# Altium footprint library DSUB.PcbLib: 5 footprints
Each footprint in its own frame and in the unit in brackets; x right, y up, seen from the top. Pads: shape width x height; smd on the part's side, far side on the other; paste and mask are expansions set on the pad; w line width, h text height; cw(c..) or ccw(c..) is an arc to the next point about the centre after c.
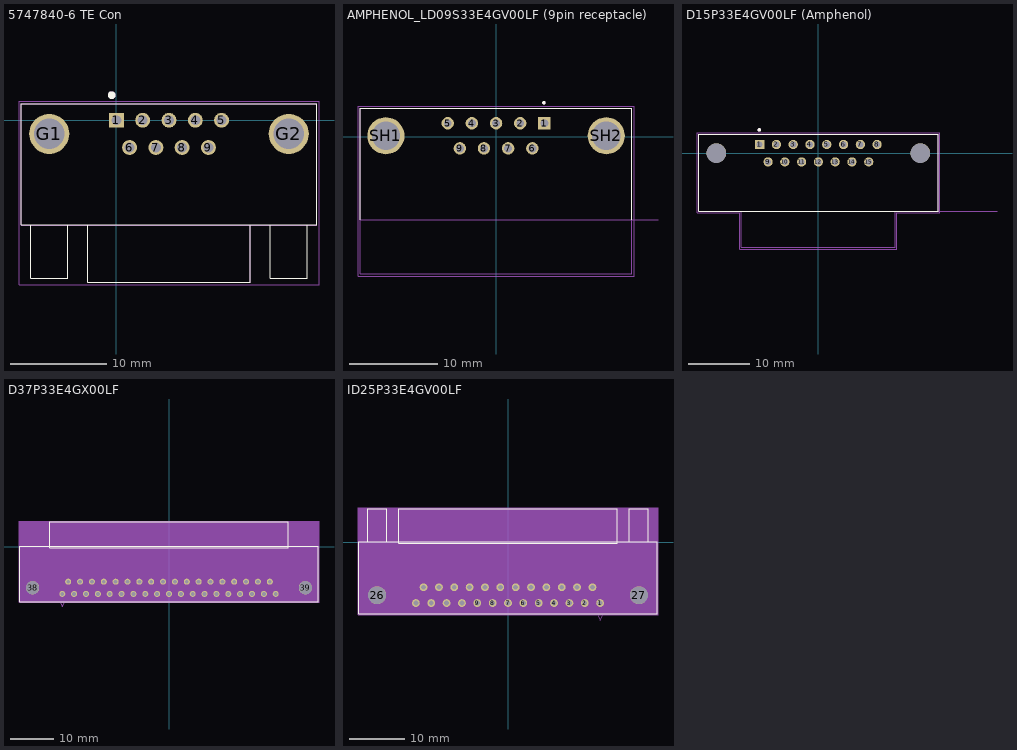
[diagram p0: the footprints below, top view; thin cyan lines are the x and y axes]

## 5747840-6 TE Con [mil]
pads (11):
  rect 61.5x61.5 hole 41: 1(0,0)
  round 61.5 hole 41: 2(108,0) 3(216,0) 4(324,0) 5(432,0) 6(54,-112) 7(162,-112) 8(270,-112) 9(378,-112)
  round 165 hole 125: G1(-276,-56) G2(708,-56)
Top Overlay:
  circle w15.75: c-19.04,103.15 r7.87
  lines w5: -351.5,-429.92 -351.5,-650 -200.5,-650 -200.5,-429.92 ; -351.5,-429.92 -390.5,-429.92 -390.5,68.11 822.5,68.11 822.5,-429.92 783.5,-429.92 ; -351.5,-429.92 -200.5,-429.92 ; -200.5,-429.92 -117.07,-429.92 ; -117.07,-429.92 -117.07,-664.96 549.07,-664.96 549.07,-429.92 ; -117.07,-429.92 549.07,-429.92 ; 549.07,-429.92 632.5,-429.92 ; 632.5,-429.92 632.5,-650 783.5,-650 783.5,-429.92 ; 632.5,-429.92 783.5,-429.92
Mechanical 13:
  circle w15.75: c-19.04,103.15 r7.87
  lines w5: -117.07,-430.8 -117.07,-665.84 549.07,-665.84 549.07,-430.8 ; -117.07,-430.8 -390.5,-430.8 -390.5,68.11 822.5,68.11 822.5,-430.8 549.07,-430.8 ; -117.07,-430.8 549.07,-430.8
Mechanical 15:
  lines w1.97: -400.34,-440.94 -400.34,-676.02 832.34,-676.02 832.34,-440.94 ; -400.34,-440.87 -400.34,77.4 832.34,77.4 832.34,-440.87
3D body "5747840-6.stp": height 451.72, standoff -170.68, extent -397,-666.2 825,66.2

## AMPHENOL_LD09S33E4GV00LF (9pin receptacle) [mm]
pads (11):
  rect 1.408x1.408 / inner round 1.408 / far side rect 1.408x1.408 hole 0.9: 1(5.48,1.547)
  round 1.408 hole 0.9: 2(2.74,1.547) 3(0,1.547) 4(-2.74,1.547) 5(-5.48,1.547) 6(4.11,-1.293) 7(1.37,-1.293) 8(-1.37,-1.293) 9(-4.11,-1.293)
  round 4.216 hole 3.2: SH1(-12.495,0.127) SH2(12.495,0.127)
Top Overlay:
  circle w0.2: c5.425,3.877 r0.1
  lines w0.127: -15.405,-9.373 -15.405,3.227 15.405,3.227 15.405,-9.373
Mechanical 13:
  circle w0.2: c5.425,3.877 r0.1
  lines w0.127: 18.363,-9.373 -15.405,-9.373 ; -15.405,-9.373 -15.405,3.227 15.405,3.227 15.405,-15.543 -15.405,-15.543 -15.405,-9.373
  text "PCB Edge" at 16.155,-9.08 h0.81
Mechanical 15:
  lines w0.05: -15.655,-15.793 15.655,-15.793 15.655,3.477 -15.655,3.477 -15.655,-15.793
3D body "step_temp.STEP": height 12.55, standoff -3.2, extent -15.494,-15.598 15.406,3.152

## D15P33E4GV00LF (Amphenol) [mm]
pads (17):
  rect 1.508x1.508 / inner round 1.508 / far side rect 1.508x1.508 hole 1: 1(-9.59,1.42)
  round 1.508 hole 1: 2(-6.85,1.42) 3(-4.11,1.42) 4(-1.37,1.42) 5(1.37,1.42) 6(4.11,1.42) 7(6.85,1.42) 8(9.59,1.42) 9(-8.22,-1.42) 10(-5.48,-1.42) 11(-2.74,-1.42) 12(0,-1.42) 13(2.74,-1.42) 14(5.48,-1.42) 15(8.22,-1.42)
  round 3.2 hole 3.2 unplated: ""(-16.66,0) ""(16.66,0)
Top Overlay:
  circle w0.3: c-9.645,3.8 r0.15
  lines w0.127: -19.57,-9.5 19.57,-9.5 19.57,3.1 -19.57,3.1 -19.57,-9.5
Mechanical 13:
  circle w0.3: c-9.645,3.8 r0.15
  lines w0.127: 29.165,-9.5 19.57,-9.5 ; -12.56,-9.5 12.56,-9.5 ; -12.56,-9.5 -12.56,-15.4 12.56,-15.4 12.56,-9.5 ; -12.56,-9.5 -19.57,-9.5 -19.57,3.1 19.57,3.1 19.57,-9.5 ; 12.56,-9.5 19.57,-9.5
  text "PCB EDGE" at 20.165,-9.31 h1
Mechanical 15:
  lines w0.05: -19.82,-9.75 -12.81,-9.75 -12.81,-15.65 12.81,-15.65 12.81,-9.75 19.82,-9.75 19.82,3.35 -19.82,3.35 -19.82,-9.75
3D body "D15P33E4GV00LF--3DModel-STEP-533217.STEP": height 12.55, standoff -3.2, extent -19.57,-15.54 19.57,3.31

## D37P33E4GX00LF [mil]
pads (39):
  round 55 / inner round 60 / far side round 55 hole 35 paste-27.5 mask+0: 1(-977.95,-429.92) 2(-869.29,-429.92) 3(-760.63,-429.92) 4(-651.97,-429.92) 5(-543.31,-429.92) 6(-434.65,-429.92) 7(-325.98,-429.92) 8(-217.32,-429.92) 9(-108.66,-429.92) 10(0,-429.92) 11(108.66,-429.92) 12(217.32,-429.92) 13(325.98,-429.92) 14(434.65,-429.92) 15(543.31,-429.92) 16(651.97,-429.92) 17(760.63,-429.92) 18(869.29,-429.92) 19(977.95,-429.92) 20(-923.62,-318.11) 21(-814.96,-318.11) 22(-706.3,-318.11) 23(-597.64,-318.11) 24(-488.98,-318.11) 25(-380.31,-318.11) 26(-271.65,-318.11) 27(-162.99,-318.11) 28(-54.33,-318.11) 29(54.33,-318.11) 30(162.99,-318.11) 31(271.65,-318.11) 32(380.31,-318.11) 33(488.98,-318.11) 34(597.64,-318.11) 35(706.3,-318.11) 36(814.96,-318.11) 37(923.62,-318.11)
  round 122 / inner round 60 / far side round 122 hole 122 unplated paste-61 mask-61: 38(-1250,-374.02) 39(1250,-374.02)
Top Overlay:
  lines w6: -1369.5,-501 1369.5,-501 1369.5,5 -1369.5,5 -1369.5,-501 ; -1093.5,-5 1093.5,-5 1093.5,229 -1093.5,229 -1093.5,-5
Mechanical 13:
  lines w1: -1002.95,-496 -977.95,-546 -952.95,-496 ; -1364.5,-496 1364.5,-496 1364.5,0 -1364.5,0 -1364.5,-496 ; -1088.5,0 1088.5,0 1088.5,224 -1088.5,224 -1088.5,0
Mechanical 15:
  region: 1374.5,-506 1374.5,234 -1374.5,234 -1374.5,-506
  lines w6: -1374.5,-506 -1374.5,234 1374.5,234 1374.5,-506 -1374.5,-506
3D body "CONN_D37P33E4GX00LF_AMP.step": height 495, standoff -125, extent -1359.49,-495.51 1369.49,224.49

## ID25P33E4GV00LF [mil]
pads (27):
  round 55 / inner round 60 / far side round 55 hole 35 paste-27.5 mask+0: 1(651.97,-429.92) 2(543.31,-429.92) 3(434.65,-429.92) 4(325.98,-429.92) 5(217.32,-429.92) 6(108.66,-429.92) 7(0,-429.92) 8(-108.66,-429.92) 9(-217.32,-429.92) 10(-325.98,-429.92) 11(-434.65,-429.92) 12(-543.31,-429.92) 13(-651.97,-429.92) 14(597.64,-318.11) 15(488.98,-318.11) 16(380.31,-318.11) 17(271.65,-318.11) 18(162.99,-318.11) 19(54.33,-318.11) 20(-54.33,-318.11) 21(-162.99,-318.11) 22(-271.65,-318.11) 23(-380.31,-318.11) 24(-488.98,-318.11) 25(-597.64,-318.11)
  round 126 / inner round 60 / far side round 126 hole 126 unplated paste-63 mask-63: 26(-925.98,-374.02) 27(925.98,-374.02)
Top Overlay:
  lines w6: -993.98,5 -993.98,239 -857.98,239 -857.98,5 ; 857.98,5 857.98,239 993.98,239 993.98,5 ; -1056.5,-506 1056.5,-506 1056.5,5 -1056.5,5 -1056.5,-506 ; -774.5,-5 774.5,-5 774.5,239 -774.5,239 -774.5,-5
Mechanical 13:
  lines w1: -988.98,0 -988.98,234 -862.98,234 -862.98,0 ; -957.48,0 -957.48,234 ; -894.48,0 -894.48,234 ; 626.97,-501 651.97,-551 676.97,-501 ; 862.98,0 862.98,234 988.98,234 988.98,0 ; 894.48,0 894.48,234 ; 957.48,0 957.48,234 ; -1051.5,-501 1051.5,-501 1051.5,0 -1051.5,0 -1051.5,-501 ; -769.5,0 769.5,0 769.5,234 -769.5,234 -769.5,0
Mechanical 15:
  region: 1061.5,-511 1061.5,244 -1061.5,244 -1061.5,-511
  lines w6: -1061.5,-511 -1061.5,244 1061.5,244 1061.5,-511 -1061.5,-511
3D body "5747842-4.STEP": height 443.85, standoff -178.55, extent -1040,-495 1050,237.4